# EAGLE library part MAX17320 (library ICs)
2S-4S ModelGauge m5 EZ Fuel Gauge with Protector, Internal Self-Discharge Detection, and SHA-256 Authentication
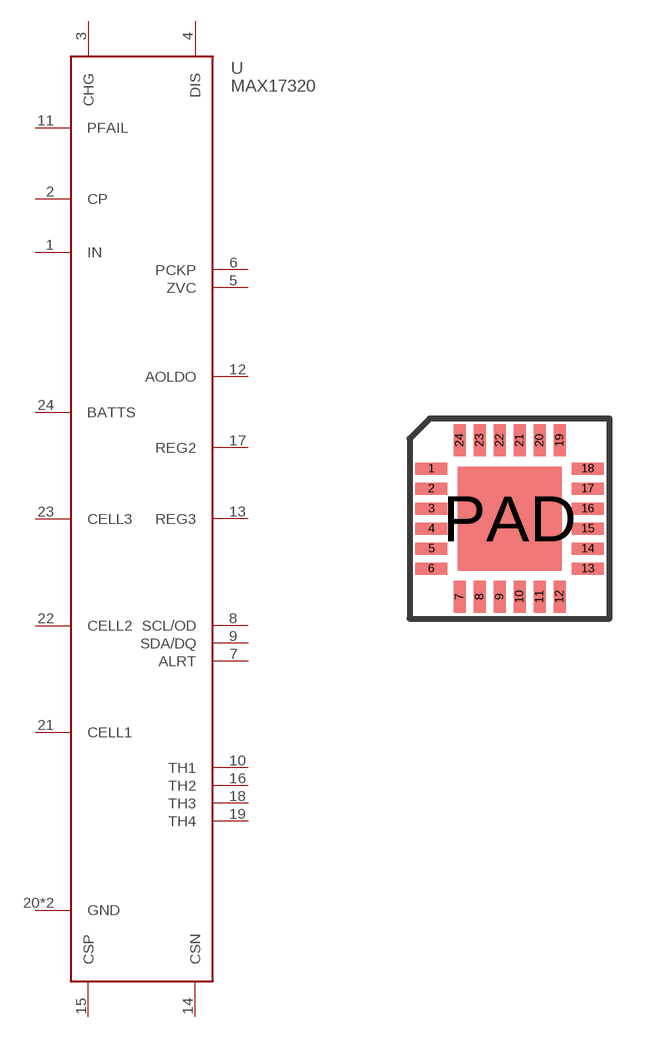
[diagram p265: symbol with the pads of TQFN24; footprint TQFN24]

Designator prefix U

## MAX17320G20+ (DIGIKEY: 175-MAX17320G20+-ND; HEIGHT: 1; PRICE_PER: 2.44; VALUE: MAX17320G20+)  [TQFN24]
1  IN
2  CP
3  CHG
4  DIS
5  ZVC
6  PCKP
7  ALRT
8  SCL/OD
9  SDA/DQ
10  TH1
11  PFAIL
12  AOLDO
13  REG3
14  CSN
15  CSP
16  TH2
17  REG2
18  TH3
19  TH4
20  GND
21  CELL1
22  CELL2
23  CELL3
24  BATTS
PAD  GND

## Footprint TQFN24 (pad centres in mm)
smd 0.8 x 0.3: 1 -1.955,1.25; 2 -1.955,0.75; 3 -1.955,0.25; 4 -1.955,-0.25; 5 -1.955,-0.75; 6 -1.955,-1.25; 13 1.955,-1.25; 14 1.955,-0.75; 15 1.955,-0.25; 16 1.955,0.25; 17 1.955,0.75; 18 1.955,1.25
smd 0.3 x 0.8: 7 -1.25,-1.955; 8 -0.75,-1.955; 9 -0.25,-1.955; 10 0.25,-1.955; 11 0.75,-1.955; 12 1.25,-1.955; 19 1.25,1.955; 20 0.75,1.955; 21 0.25,1.955; 22 -0.25,1.955; 23 -0.75,1.955; 24 -1.25,1.955
smd 2.6 x 2.6: PAD 0,0